# Altium schematic symbol library Sensors.SchLib: 9 symbols
Pins are listed as number, name and electrical type; pins without a type are passive.

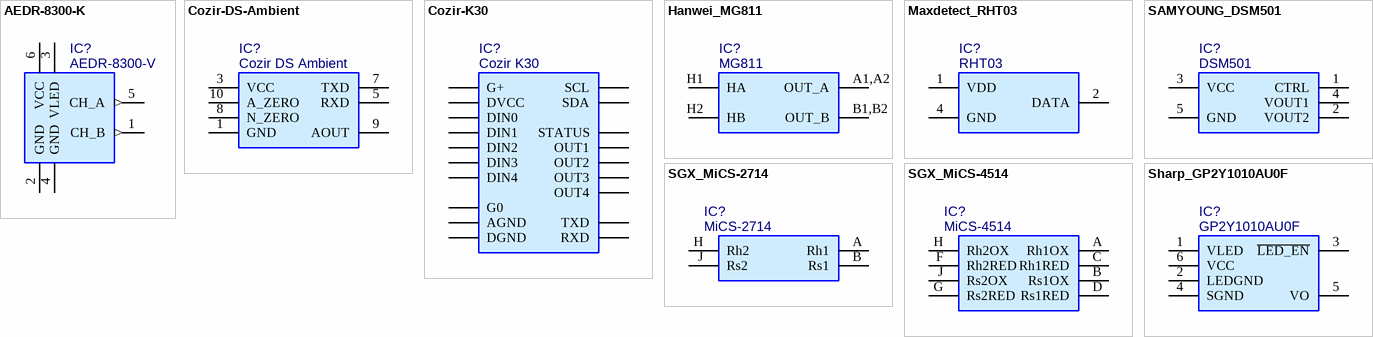
[diagram p0: symbols AEDR-8300-K to Sharp_GP2Y1010AU0F]

## AEDR-8300-K
designator IC?, comment AEDR-8300-V
Reflective Surface Mount Optical Encoder; Manufacturer 1: Avago; Manufacturer Part Number 1: AEDR-8300-1K0; ComponentLink1Description: Datasheet; Created: 2014-02-06; Last Updated: 2014-02-06; Supplier 1: Mouser; Supplier Part Number 1: 630-AEDR-8300-1K0
footprint AEDR-8300 (Avago)
pins: 1 CH_B (out), 2 GND (power), 3 VLED (power), 4 GND (power), 5 CH_A (out), 6 VCC (power)

## Cozir-DS-Ambient
designator IC?, comment Manufacturer Part Number 1: Cozir DS Ambient  (hidden comment: CO2 Meter)
CO2 sensor; Manufacturer 1: CO2Meter.com; ComponentLink1Description: Datasheet; Created: 2014-04-17; Last Updated: 2014-04-17
footprint Cozir DS Ambient (CO2 sensor)
pins: 1 GND (power) "Ground", 3 VCC (power) "Power input", 5 RXD "Serial in", 7 TXD "Serial out", 8 N_ZERO "Nitrogen Zero", 9 AOUT "Analog out", 10 A_ZERO "Fresh Air zero"

## Cozir-K30
designator IC?, comment Manufacturer Part Number 1: Cozir K30  (hidden comment: CO2 Meter)
CO2 sensor module; Manufacturer 1: CO2Meter.com; ComponentLink1Description: Datasheet; Created: 2014-04-16; Last Updated: 2014-04-16
footprint Cozir-K30 (CO2 Meter module board)
pins: AGND (power) "Analog ground", DGND (power) "Digital ground", DIN0 "Input", DIN1 "Input", DIN2 "Input", DIN3 "Input", DIN4 "Input", DVCC, G0 (power) "Power supply", G+ (power) "Power supply", I2C_SCL SCL, I2C_SDA SDA, OUT1 "Output", OUT2 "Output", OUT3 "Output", OUT4 "Output", RXD "Serial communication", Status STATUS "Output", TXD "Serial communication"

## Hanwei_MG811
designator IC?, comment Manufacturer Part Number 1: MG811  (hidden comment: CO2 sensor)
Manufacturer 1: Hanwei; ComponentLink1Description: Datasheet; Created: 2014-04-18; Last Updated: 2014-04-18
footprint HANWEI_MG811 (CO2 Sensor)
pins: A1,A2 OUT_A, B1,B2 OUT_B, H1 HA, H2 HB

## Maxdetect_RHT03
designator IC?, comment Manufacturer Part Number 1: RHT03  (hidden comment: HT Sensor)
Humidity and temperature sensor; Manufacturer 1: Maxdetect; ComponentLink1Description: Datasheet; Created: 2014-04-17; Last Updated: 2014-04-17
footprint MAXDETECT_RHT03 (Humidity and temperature sensor)
pins: 1 VDD (power) "Power supply", 2 DATA, 4 GND (power)

## SAMYOUNG_DSM501
designator IC?, comment Manufacturer Part Number 1: DSM501  (hidden comment: Dust sensor)
Manufacturer 1: Samyoung; ComponentLink1Description: Datasheet; Created: 2014-04-18; Last Updated: 2014-04-18
footprint JST_B5B-ZH (2.5mm pitch/Disconnectable Crimp style connector)
pins: 1 CTRL, 2 VOUT2, 3 VCC (power), 4 VOUT1, 5 GND (power)

## SGX_MiCS-2714
designator IC?, comment Manufacturer Part Number 1: MiCS-2714  (hidden comment: Leakage detector)
Nitrogen and dioxide leakage detector; Manufacturer 1: SGX; ComponentLink1Description: Datasheet; Created: 2014-04-18; Last Updated: 2014-04-18
footprint SGX_MiCS (SGX MiCS Sensor package)
pins: A Rh1, B Rs1, H Rh2, J Rs2

## SGX_MiCS-4514
designator IC?, comment Manufacturer Part Number 1: MiCS-4514  (hidden comment: Gas detector)
Oxidising and Reducing gas detector; Manufacturer 1: SGX; ComponentLink1Description: Datasheet; Created: 2014-04-18; Last Updated: 2014-04-18
footprint SGX_MiCS (SGX MiCS Sensor package)
pins: A Rh1OX, B Rs1OX, C Rh1RED, D Rs1RED, F Rh2RED, G Rs2RED, H Rh2OX, J Rs2OX

## Sharp_GP2Y1010AU0F
designator IC?, comment Manufacturer Part Number 1: GP2Y1010AU0F  (hidden comment: Dust sensor)
Manufacturer 1: Sharp; ComponentLink1Description: Datasheet; Created: 2014-04-17; Last Updated: 2014-04-17
footprint JST_B6B-ZR (1.5mm pitch/Disconnectable Crimp style connector)
pins: 1 VLED (power) "Power for LED", 2 LEDGND (power) "Ground", 3 ~{LED_EN}, 4 SGND (power), 5 VO, 6 VCC (power) "Power supply"